# EAGLE library part KAYO_DUAL_FET_N (library kxnStandard_fet)
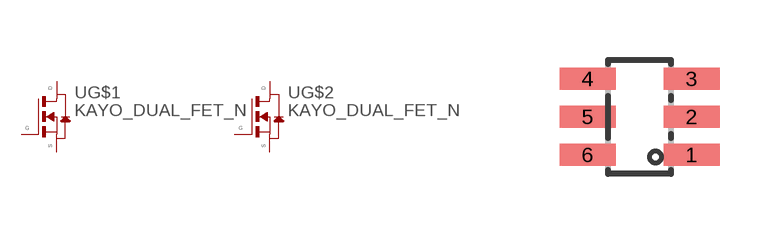
[diagram p0: symbol with the pads of KAYO_SSOT-6; footprint KAYO_SSOT-6]

Designator prefix -; gates G$1=BSS138_N G$2=BSS138_N

## KAYO_DUAL_FET_N_NDC7002N (CC_SHOP: CongCo)  [KAYO_SSOT-6]
1  G$1:G  pas
2  G$2:S  pas
3  G$2:G  pas
4  G$2:D  pas
5  G$1:S  pas
6  G$1:D  pas

## Footprint KAYO_SSOT-6 (pad centres in mm)
https://www.waveshare.com/w/upload/f/f6/NDC7002N.pdf
smd 1.4 x 0.55: 1 1.3,-0.95; 2 1.3,0; 3 1.3,0.95; 4 -1.3,0.95; 5 -1.3,0; 6 -1.3,-0.95